# EAGLE library part 4013 (library #PaJa_30)
IO - klop. obvod D - 2x
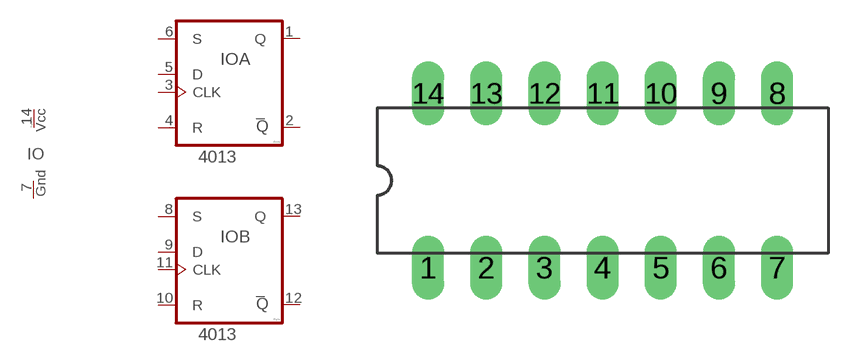
[diagram p20: symbol with the pads of DIL14; footprint DIL14]

Designator prefix IO; gates A=IO_4013 B=IO_4013 NAP=POWER

## 4013  [DIL14]
1  A:Q  out
2  A:!Q  out
3  A:CLK  in
4  A:R  in
5  A:D  in
6  A:S  in
7  NAP:GND  pwr
8  B:S  in
9  B:D  in
10  B:R  in
11  B:CLK  in
12  B:!Q  out
13  B:Q  out
14  NAP:VCC  pwr

## Footprint DIL14 (pad centres in mm)
drill 0.813 pad 1.4 long: 1 -7.62,-3.81; 2 -5.08,-3.81; 3 -2.54,-3.81; 4 0,-3.81; 5 2.54,-3.81; 6 5.08,-3.81; 7 7.62,-3.81; 8 7.62,3.81; 9 5.08,3.81; 10 2.54,3.81; 11 0,3.81; 12 -2.54,3.81; 13 -5.08,3.81; 14 -7.62,3.81